# EAGLE library part VFD-DRIVER-CARRIER (library boztalay)
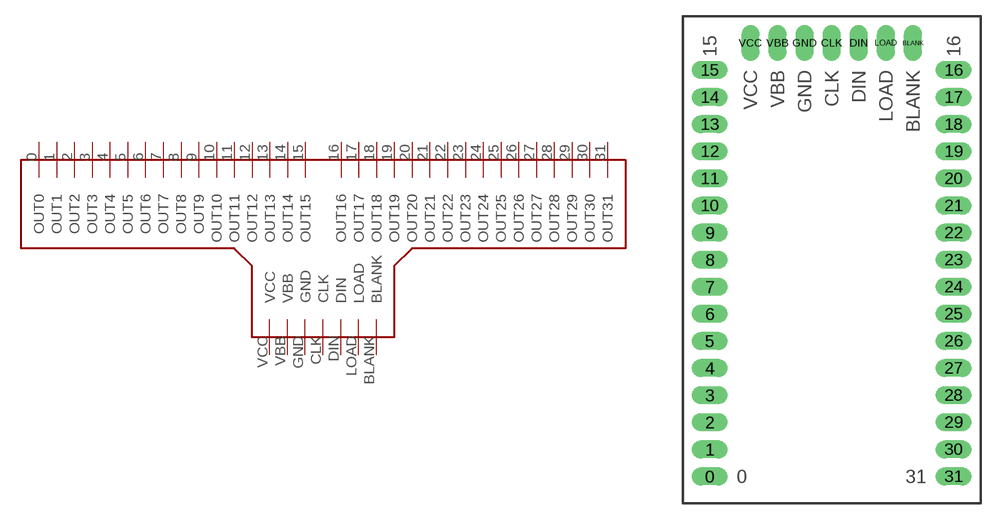
[diagram p5: symbol with the pads of VFD-DRIVER-CARRIER; footprint VFD-DRIVER-CARRIER]

Designator prefix -

## VFD-DRIVER-CARRIER  [VFD-DRIVER-CARRIER]
0  OUT0
1  OUT1
2  OUT2
3  OUT3
4  OUT4
5  OUT5
6  OUT6
7  OUT7
8  OUT8
9  OUT9
10  OUT10
11  OUT11
12  OUT12
13  OUT13
14  OUT14
15  OUT15
16  OUT16
17  OUT17
18  OUT18
19  OUT19
20  OUT20
21  OUT21
22  OUT22
23  OUT23
24  OUT24
25  OUT25
26  OUT26
27  OUT27
28  OUT28
29  OUT29
30  OUT30
31  OUT31
BLANK  BLANK
CLK  CLK
DIN  DIN
GND  GND
LOAD  LOAD
VBB  VBB
VCC  VCC

## Footprint VFD-DRIVER-CARRIER (pad centres in mm)
drill 1 pad 1.676 long: 0 -11.43,-20.32; 1 -11.43,-17.78; 2 -11.43,-15.24; 3 -11.43,-12.7; 4 -11.43,-10.16; 5 -11.43,-7.62; 6 -11.43,-5.08; 7 -11.43,-2.54; 8 -11.43,0; 9 -11.43,2.54; 10 -11.43,5.08; 11 -11.43,7.62; 12 -11.43,10.16; 13 -11.43,12.7; 14 -11.43,15.24; 15 -11.43,17.78; 16 11.43,17.78; 17 11.43,15.24; 18 11.43,12.7; 19 11.43,10.16; 20 11.43,7.62; 21 11.43,5.08; 22 11.43,2.54; 23 11.43,0; 24 11.43,-2.54; 25 11.43,-5.08; 26 11.43,-7.62; 27 11.43,-10.16; 28 11.43,-12.7; 29 11.43,-15.24; 30 11.43,-17.78; 31 11.43,-20.32; BLANK 7.62,20.32; CLK 0,20.32; DIN 2.54,20.32; GND -2.54,20.32; LOAD 5.08,20.32; VBB -5.08,20.32; VCC -7.62,20.32